# EAGLE library part MDBT50Q (library nrf52840)
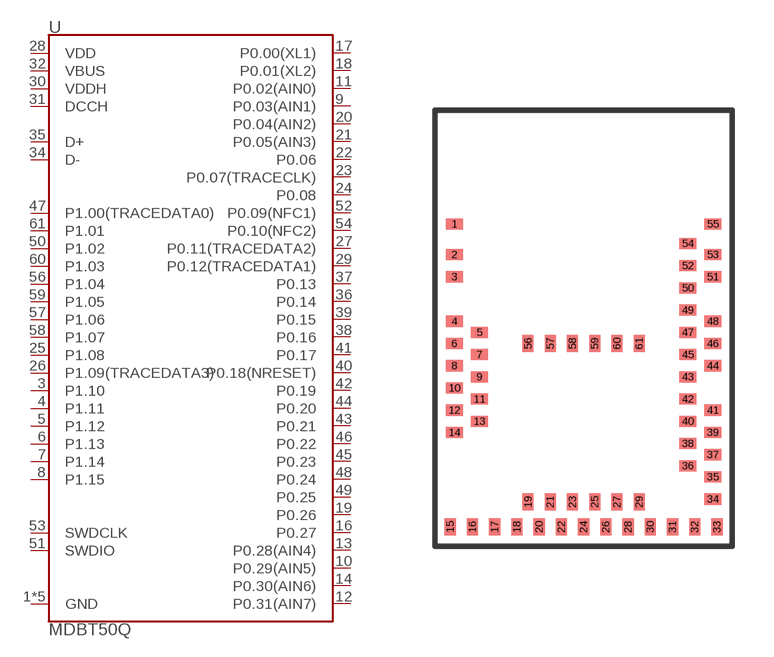
[diagram p1: symbol with the pads of MDBT50Q; footprint MDBT50Q]

Designator prefix U

## MDBT50Q (PROD_ID: IC-14109)  [MDBT50Q]
1  GND
2  GND
3  P1.10
4  P1.11
5  P1.12
6  P1.13
7  P1.14
8  P1.15
9  P0.03(AIN1)
10  P0.29(AIN5)
11  P0.02(AIN0)
12  P0.31(AIN7)
13  P0.28(AIN4)
14  P0.30(AIN6)
15  GND
16  P0.27
17  P0.00(XL1)
18  P0.01(XL2)
19  P0.26
20  P0.04(AIN2)
21  P0.05(AIN3)
22  P0.06
23  P0.07(TRACECLK)
24  P0.08
25  P1.08
26  P1.09(TRACEDATA3)
27  P0.11(TRACEDATA2)
28  VDD
29  P0.12(TRACEDATA1)
30  VDDH
31  DCCH
32  VBUS
33  GND
34  D-
35  D+
36  P0.14
37  P0.13
38  P0.16
39  P0.15
40  P0.18(NRESET)
41  P0.17
42  P0.19
43  P0.21
44  P0.20
45  P0.23
46  P0.22
47  P1.00(TRACEDATA0)
48  P0.24
49  P0.25
50  P1.02
51  SWDIO
52  P0.09(NFC1)
53  SWDCLK
54  P0.10(NFC2)
55  GND
56  P1.04
57  P1.06
58  P1.07
59  P1.05
60  P1.03
61  P1.01

## Footprint MDBT50Q (pad centres in mm)
smd 0.6 x 0.4: 1 -4.65,3.65; 2 -4.65,2.55; 3 -4.65,1.75; 4 -4.65,0.15; 5 -3.75,-0.25; 6 -4.65,-0.65; 7 -3.75,-1.05; 8 -4.65,-1.45; 9 -3.75,-1.85; 10 -4.65,-2.25; 11 -3.75,-2.65; 12 -4.65,-3.05; 13 -3.75,-3.45; 14 -4.65,-3.85; 34 4.65,-6.25; 35 4.65,-5.45; 36 3.75,-5.05; 37 4.65,-4.65; 38 3.75,-4.25; 39 4.65,-3.85; 40 3.75,-3.45; 41 4.65,-3.05; 42 3.75,-2.65; 43 3.75,-1.85; 44 4.65,-1.45; 45 3.75,-1.05; 46 4.65,-0.65; 47 3.75,-0.25; 48 4.65,0.15; 49 3.75,0.55; 50 3.75,1.35; 51 4.65,1.75; 52 3.75,2.15; 53 4.65,2.55; 54 3.75,2.95; 55 4.65,3.65
smd 0.4 x 0.6: 15 -4.8,-7.25; 16 -4,-7.25; 17 -3.2,-7.25; 18 -2.4,-7.25; 19 -2,-6.35; 20 -1.6,-7.25; 21 -1.2,-6.35; 22 -0.8,-7.25; 23 -0.4,-6.35; 24 0,-7.25; 25 0.4,-6.35; 26 0.8,-7.25; 27 1.2,-6.35; 28 1.6,-7.25; 29 2,-6.35; 30 2.4,-7.25; 31 3.2,-7.25; 32 4,-7.25; 33 4.8,-7.25; 56 -2,-0.65; 57 -1.2,-0.65; 58 -0.4,-0.65; 59 0.4,-0.65; 60 1.2,-0.65; 61 2,-0.65